# EAGLE library part 2336582-1 (library 2336582-1)
4FF SIM, Push-Push Type, 7 Position, 7 Loaded Positions, Signal, -40 80 C [-40 185 F], SIM Card Connectors Source: Datasheet <https://www.te.com/en/product-2336582-1.html>
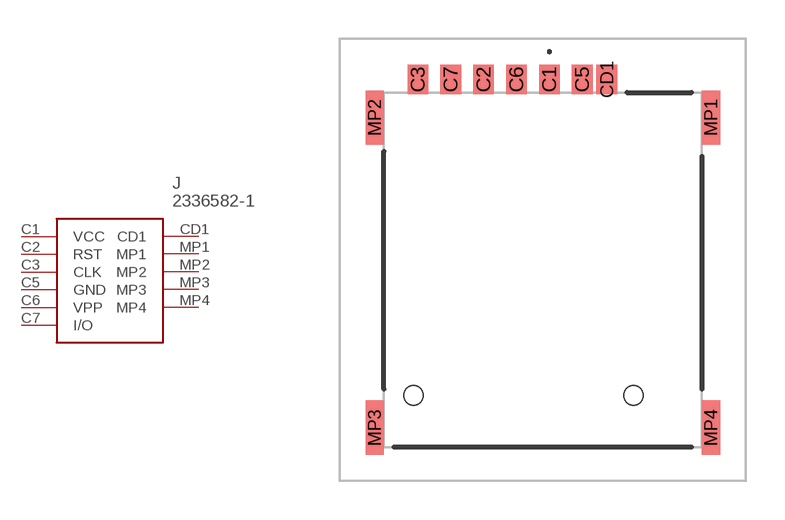
[diagram p0: symbol with the pads of 23365821; footprint 23365821]

Designator prefix J

## 2336582-1 (Description: 4FF SIM, Push-Push Type, 7 Position, 7 Loaded Positions, Signal, -40 80 C [-40 185 F], SIM Card Connectors; Height: 1.62mm; Manufacturer_Name: TE Connectivity; Manufacturer_Part_Number: 2336582-1)  [23365821]
C1  VCC
C2  RST
C3  CLK
C5  GND
C6  VPP
C7  I/O
CD1  CD1
MP1  MP1
MP2  MP2
MP3  MP3
MP4  MP4

## Footprint 23365821 (pad centres in mm)
2336582-1-2
smd 0.8 x 1.14: C1 0.25,6.98; C2 -2.29,6.98; C3 -4.83,6.98; C5 1.52,6.98; C6 -1.02,6.98; C7 -3.56,6.98; CD1 2.47,6.98
smd 0.7 x 2.1: MP1 6.5,5.5; MP2 -6.5,5.5; MP3 -6.5,-6.5; MP4 6.5,-6.5
hole 0.75 at 3.5,-5.25
hole 0.75 at -5,-5.25